# Altium integrated library FPGA Generic.IntLib: 1651 symbols (part 15 of 20)
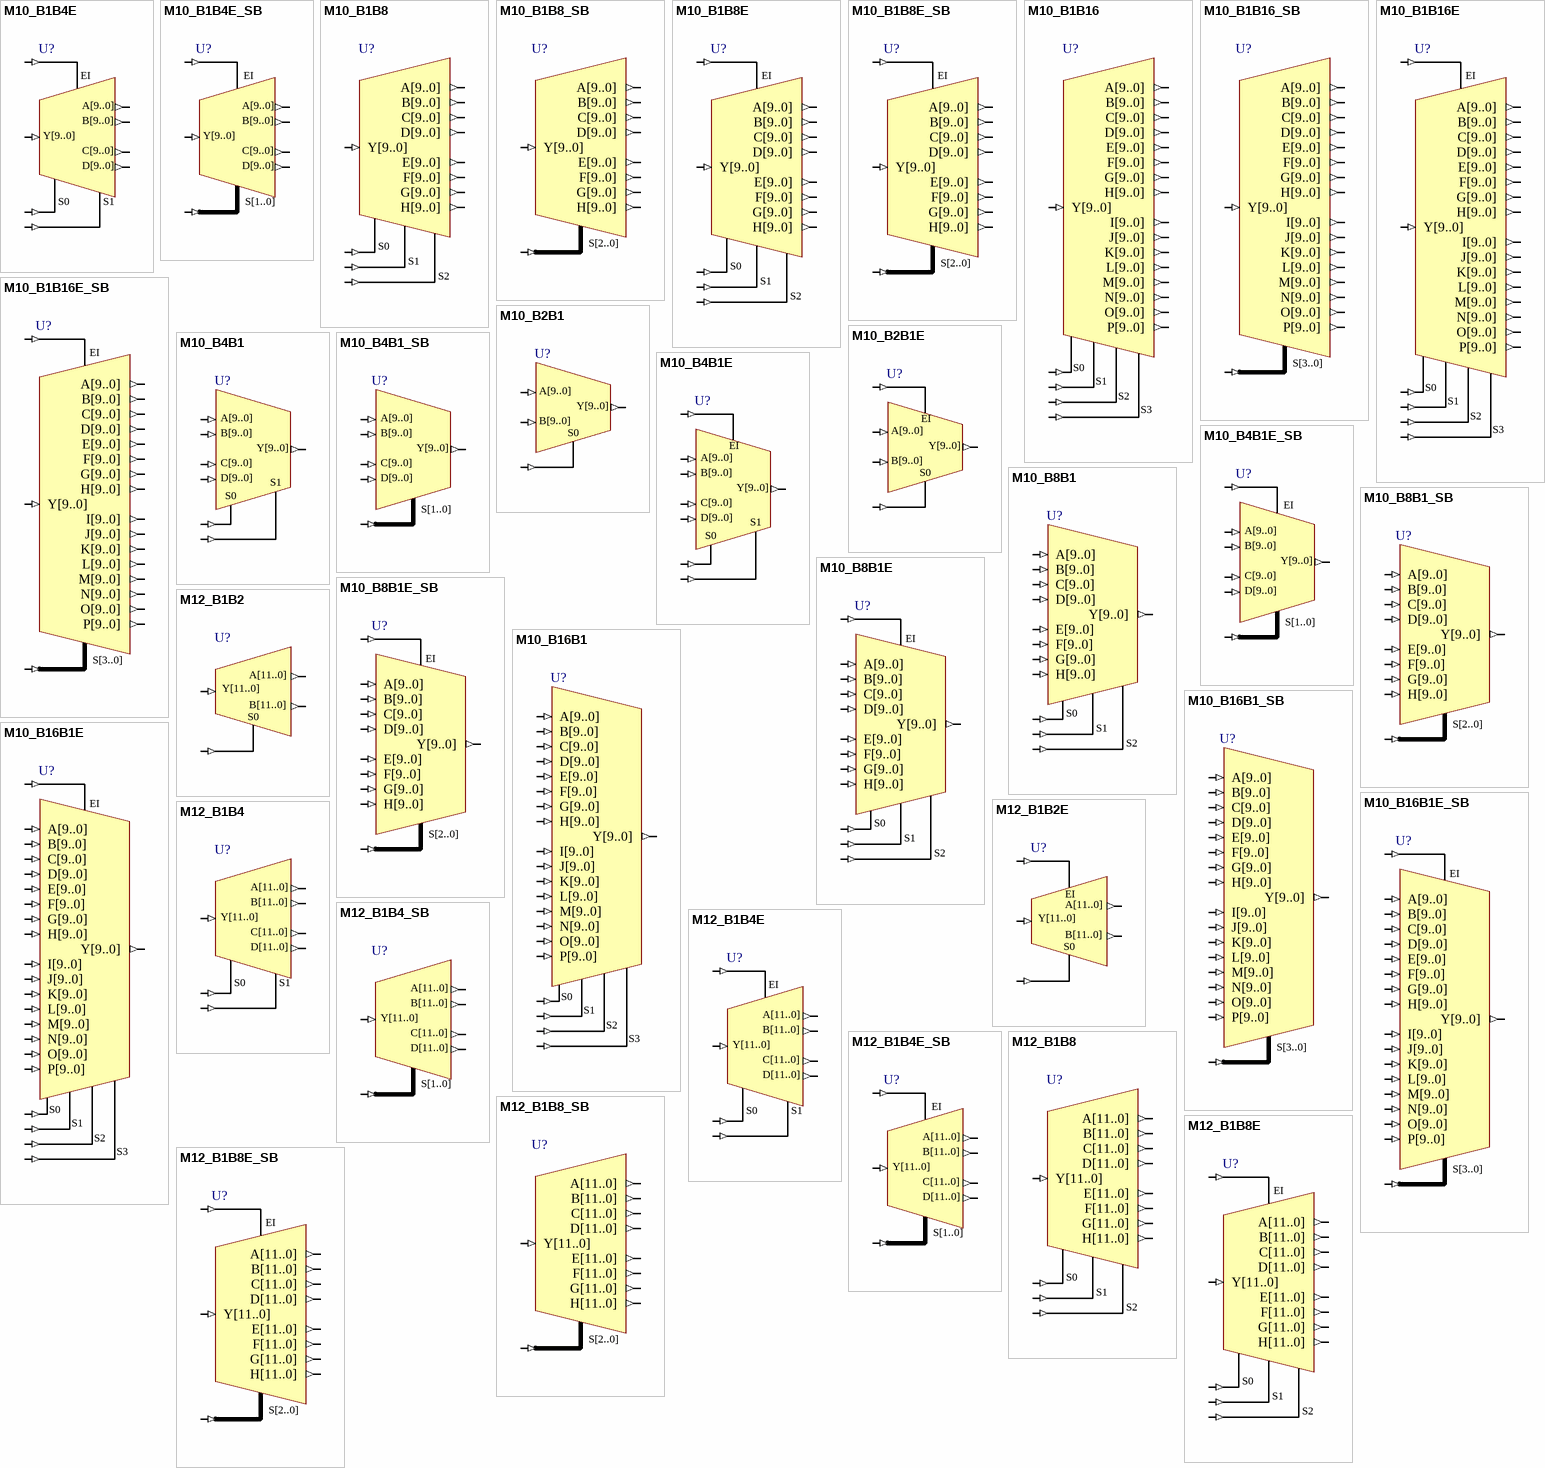
[diagram p57: symbols M10_B1B4E to M12_B1B8E_SB]

## M10_B4B1_SB
designator U?
4x10-Bit Bus to 1x10-Bit Bus Multiplexer With Bus Version Select; SubClass: BnB1; BusBusSelect: True; PortSize: 10; ArchiveName: GENERIC; VHDLIB_SIM: GENERIC_LIB; Published: 31-May-2004; Publisher: Altium Limited; LastRevisionNo: 1.00.00; HelpURL: CR0118 FPGA Generic Library Guide.pdf#page=370; ComponentLink1URL: CR0137 FPGA Multiplexer Resource Usage.pdf#page=365; ComponentLink1Description: Core &Resource Usage; FunctionalClass: Multiplexer
pins: A[9..0] (in), B[9..0] (in), C[9..0] (in), D[9..0] (in), S[1..0] (in), Y[9..0] (out)

## M10_B4B1E
designator U?
4x10-Bit Bus to 1x10-Bit Bus Multiplexer With Enable; SubClass: BnB1; Enable: High; PortSize: 10; ArchiveName: GENERIC; VHDLIB_SIM: GENERIC_LIB; Published: 29-Jan-2004; Publisher: Altium Limited; LastRevisionNo: 1.00.00; HelpURL: CR0118 FPGA Generic Library Guide.pdf#page=374; ComponentLink1URL: CR0137 FPGA Multiplexer Resource Usage.pdf#page=366; ComponentLink1Description: Core &Resource Usage; FunctionalClass: Multiplexer
pins: A[9..0] (in), B[9..0] (in), C[9..0] (in), D[9..0] (in), EI (in), S0 (in), S1 (in), Y[9..0] (out)

## M10_B4B1E_SB
designator U?
4x10-Bit Bus to 1x10-Bit Bus Multiplexer With Enable With Bus Version Select; SubClass: BnB1; Enable: High; BusBusSelect: True; PortSize: 10; ArchiveName: GENERIC; VHDLIB_SIM: GENERIC_LIB; Published: 31-May-2004; Publisher: Altium Limited; LastRevisionNo: 1.00.00; HelpURL: CR0118 FPGA Generic Library Guide.pdf#page=374; ComponentLink1URL: CR0137 FPGA Multiplexer Resource Usage.pdf#page=367; ComponentLink1Description: Core &Resource Usage; FunctionalClass: Multiplexer
pins: A[9..0] (in), B[9..0] (in), C[9..0] (in), D[9..0] (in), EI (in), S[1..0] (in), Y[9..0] (out)

## M10_B8B1
designator U?
8x10-Bit Bus to 1x10-Bit Bus Multiplexer; SubClass: BnB1; PortSize: 10; ArchiveName: GENERIC; VHDLIB_SIM: GENERIC_LIB; Published: 29-Jan-2004; Publisher: Altium Limited; LastRevisionNo: 1.00.00; HelpURL: CR0118 FPGA Generic Library Guide.pdf#page=383; ComponentLink1URL: CR0137 FPGA Multiplexer Resource Usage.pdf#page=368; ComponentLink1Description: Core &Resource Usage; FunctionalClass: Multiplexer
pins: A[9..0] (in), B[9..0] (in), C[9..0] (in), D[9..0] (in), E[9..0] (in), F[9..0] (in), G[9..0] (in), H[9..0] (in), S0 (in), S1 (in), S2 (in), Y[9..0] (out)

## M10_B8B1_SB
designator U?
8x10-Bit Bus to 1x10-Bit Bus Multiplexer With Bus Version Select; SubClass: BnB1; BusBusSelect: True; PortSize: 10; ArchiveName: GENERIC; VHDLIB_SIM: GENERIC_LIB; Published: 31-May-2004; Publisher: Altium Limited; LastRevisionNo: 1.00.00; HelpURL: CR0118 FPGA Generic Library Guide.pdf#page=379; ComponentLink1URL: CR0137 FPGA Multiplexer Resource Usage.pdf#page=369; ComponentLink1Description: Core &Resource Usage; FunctionalClass: Multiplexer
pins: A[9..0] (in), B[9..0] (in), C[9..0] (in), D[9..0] (in), E[9..0] (in), F[9..0] (in), G[9..0] (in), H[9..0] (in), S[2..0] (in), Y[9..0] (out)

## M10_B8B1E
designator U?
8x10-Bit Bus to 1x10-Bit Bus Multiplexer With Enable; SubClass: BnB1; Enable: High; PortSize: 10; ArchiveName: GENERIC; VHDLIB_SIM: GENERIC_LIB; Published: 29-Jan-2004; Publisher: Altium Limited; LastRevisionNo: 1.00.00; HelpURL: CR0118 FPGA Generic Library Guide.pdf#page=383; ComponentLink1URL: CR0137 FPGA Multiplexer Resource Usage.pdf#page=370; ComponentLink1Description: Core &Resource Usage; FunctionalClass: Multiplexer
pins: A[9..0] (in), B[9..0] (in), C[9..0] (in), D[9..0] (in), E[9..0] (in), EI (in), F[9..0] (in), G[9..0] (in), H[9..0] (in), S0 (in), S1 (in), S2 (in), Y[9..0] (out)

## M10_B8B1E_SB
designator U?
8x10-Bit Bus to 1x10-Bit Bus Multiplexer With Enable With Bus Version Select; SubClass: BnB1; Enable: High; BusBusSelect: True; PortSize: 10; ArchiveName: GENERIC; VHDLIB_SIM: GENERIC_LIB; Published: 31-May-2004; Publisher: Altium Limited; LastRevisionNo: 1.00.00; HelpURL: CR0118 FPGA Generic Library Guide.pdf#page=383; ComponentLink1URL: CR0137 FPGA Multiplexer Resource Usage.pdf#page=371; ComponentLink1Description: Core &Resource Usage; FunctionalClass: Multiplexer
pins: A[9..0] (in), B[9..0] (in), C[9..0] (in), D[9..0] (in), E[9..0] (in), EI (in), F[9..0] (in), G[9..0] (in), H[9..0] (in), S[2..0] (in), Y[9..0] (out)

## M10_B16B1
designator U?
16x10-Bit Bus to 1x10-Bit Bus Multiplexer; SubClass: BnB1; PortSize: 10; ArchiveName: GENERIC; VHDLIB_SIM: GENERIC_LIB; Published: 29-Jan-2004; Publisher: Altium Limited; LastRevisionNo: 1.00.00; HelpURL: CR0118 FPGA Generic Library Guide.pdf#page=388; ComponentLink1URL: CR0137 FPGA Multiplexer Resource Usage.pdf#page=372; ComponentLink1Description: Core &Resource Usage; FunctionalClass: Multiplexer
pins: A[9..0] (in), B[9..0] (in), C[9..0] (in), D[9..0] (in), E[9..0] (in), F[9..0] (in), G[9..0] (in), H[9..0] (in), I[9..0] (in), J[9..0] (in), K[9..0] (in), L[9..0] (in), M[9..0] (in), N[9..0] (in), O[9..0] (in), P[9..0] (in), S0 (in), S1 (in), S2 (in), S3 (in), Y[9..0] (out)

## M10_B16B1_SB
designator U?
16x10-Bit Bus to 1x10-Bit Bus Multiplexer With Bus Version Select; SubClass: BnB1; BusBusSelect: True; PortSize: 10; ArchiveName: GENERIC; VHDLIB_SIM: GENERIC_LIB; Published: 29-Jan-2004; Publisher: Altium Limited; LastRevisionNo: 1.00.00; HelpURL: CR0118 FPGA Generic Library Guide.pdf#page=388; ComponentLink1URL: CR0137 FPGA Multiplexer Resource Usage.pdf#page=373; ComponentLink1Description: Core &Resource Usage; FunctionalClass: Multiplexer
pins: A[9..0] (in), B[9..0] (in), C[9..0] (in), D[9..0] (in), E[9..0] (in), F[9..0] (in), G[9..0] (in), H[9..0] (in), I[9..0] (in), J[9..0] (in), K[9..0] (in), L[9..0] (in), M[9..0] (in), N[9..0] (in), O[9..0] (in), P[9..0] (in), S[3..0] (in), Y[9..0] (out)

## M10_B16B1E
designator U?
16x10-Bit Bus to 1x10-Bit Bus Multiplexer With Enable; SubClass: BnB1; Enable: High; PortSize: 10; ArchiveName: GENERIC; VHDLIB_SIM: GENERIC_LIB; Published: 29-Jan-2004; Publisher: Altium Limited; LastRevisionNo: 1.00.00; HelpURL: CR0118 FPGA Generic Library Guide.pdf#page=393; ComponentLink1URL: CR0137 FPGA Multiplexer Resource Usage.pdf#page=374; ComponentLink1Description: Core &Resource Usage; FunctionalClass: Multiplexer
pins: A[9..0] (in), B[9..0] (in), C[9..0] (in), D[9..0] (in), E[9..0] (in), EI (in), F[9..0] (in), G[9..0] (in), H[9..0] (in), I[9..0] (in), J[9..0] (in), K[9..0] (in), L[9..0] (in), M[9..0] (in), N[9..0] (in), O[9..0] (in), P[9..0] (in), S0 (in), S1 (in), S2 (in), S3 (in), Y[9..0] (out)

## M10_B16B1E_SB
designator U?
16x10-Bit Bus to 1x10-Bit Bus Multiplexer With Enable and Bus Version Select; SubClass: BnB1; Enable: High; BusBusSelect: True; PortSize: 10; ArchiveName: GENERIC; VHDLIB_SIM: GENERIC_LIB; Published: 29-Jan-2004; Publisher: Altium Limited; LastRevisionNo: 1.00.00; HelpURL: CR0118 FPGA Generic Library Guide.pdf#page=393; ComponentLink1URL: CR0137 FPGA Multiplexer Resource Usage.pdf#page=375; ComponentLink1Description: Core &Resource Usage; FunctionalClass: Multiplexer
pins: A[9..0] (in), B[9..0] (in), C[9..0] (in), D[9..0] (in), E[9..0] (in), EI (in), F[9..0] (in), G[9..0] (in), H[9..0] (in), I[9..0] (in), J[9..0] (in), K[9..0] (in), L[9..0] (in), M[9..0] (in), N[9..0] (in), O[9..0] (in), P[9..0] (in), S[3..0] (in), Y[9..0] (out)

## M12_B1B2
designator U?
1x12-Bit Bus to 2x12-Bit Bus Multiplexer (Demultiplex); SubClass: B1Bn; PortSize: 12; PortStyle: Bus Version; ArchiveName: GENERIC; VHDLIB_SIM: GENERIC_LIB; Published: 29-Jan-2004; Publisher: Altium Limited; LastRevisionNo: 1.00.00; HelpURL: CR0118 FPGA Generic Library Guide.pdf#page=328; ComponentLink1URL: CR0137 FPGA Multiplexer Resource Usage.pdf#page=376; ComponentLink1Description: Core &Resource Usage; FunctionalClass: Multiplexer
pins: A[11..0] (out), B[11..0] (out), S0 (in), Y[11..0] (in)

## M12_B1B2E
designator U?
1x12-Bit Bus to 2x12-Bit Bus Multiplexer (Demultiplex) With Enable; SubClass: B1Bn; Enable: High; PortSize: 12; PortStyle: Bus Version; ArchiveName: GENERIC; VHDLIB_SIM: GENERIC_LIB; Published: 29-Jan-2004; Publisher: Altium Limited; LastRevisionNo: 1.00.00; HelpURL: CR0118 FPGA Generic Library Guide.pdf#page=331; ComponentLink1URL: CR0137 FPGA Multiplexer Resource Usage.pdf#page=377; ComponentLink1Description: Core &Resource Usage; FunctionalClass: Multiplexer
pins: A[11..0] (out), B[11..0] (out), EI (in), S0 (in), Y[11..0] (in)

## M12_B1B4
designator U?
1x12-Bit Bus to 4x12-Bit Bus Multiplexer (Demultiplex); SubClass: B1Bn; PortSize: 12; PortStyle: Bus Version; ArchiveName: GENERIC; VHDLIB_SIM: GENERIC_LIB; Published: 29-Jan-2004; Publisher: Altium Limited; LastRevisionNo: 1.00.00; HelpURL: CR0118 FPGA Generic Library Guide.pdf#page=335; ComponentLink1URL: CR0137 FPGA Multiplexer Resource Usage.pdf#page=378; ComponentLink1Description: Core &Resource Usage; FunctionalClass: Multiplexer
pins: A[11..0] (out), B[11..0] (out), C[11..0] (out), D[11..0] (out), S0 (in), S1 (in), Y[11..0] (in)

## M12_B1B4_SB
designator U?
1x12-Bit Bus to 4x12-Bit Bus Multiplexer (Demultiplex) With Bus Version Select; SubClass: B1Bn; BusBusSelect: True; PortSize: 12; ArchiveName: GENERIC; VHDLIB_SIM: GENERIC_LIB; Published: 31-May-2004; Publisher: Altium Limited; LastRevisionNo: 1.00.00; HelpURL: CR0118 FPGA Generic Library Guide.pdf#page=335; ComponentLink1URL: CR0137 FPGA Multiplexer Resource Usage.pdf#page=379; ComponentLink1Description: Core &Resource Usage; FunctionalClass: Multiplexer; PortStyle: Bus Version
pins: A[11..0] (out), B[11..0] (out), C[11..0] (out), D[11..0] (out), S[1..0] (in), Y[11..0] (in)

## M12_B1B4E
designator U?
1x12-Bit Bus to 4x12-Bit Bus Multiplexer (Demultiplex) With Enable; SubClass: B1Bn; Enable: High; PortSize: 12; PortStyle: Bus Version; ArchiveName: GENERIC; VHDLIB_SIM: GENERIC_LIB; Published: 29-Jan-2004; Publisher: Altium Limited; LastRevisionNo: 1.00.00; HelpURL: CR0118 FPGA Generic Library Guide.pdf#page=339; ComponentLink1URL: CR0137 FPGA Multiplexer Resource Usage.pdf#page=380; ComponentLink1Description: Core &Resource Usage; FunctionalClass: Multiplexer
pins: A[11..0] (out), B[11..0] (out), C[11..0] (out), D[11..0] (out), EI (in), S0 (in), S1 (in), Y[11..0] (in)

## M12_B1B4E_SB
designator U?
1x12-Bit Bus to 4x12-Bit Bus Multiplexer (Demultiplex) With Enable With Bus Version Select; SubClass: B1Bn; Enable: High; BusBusSelect: True; PortSize: 12; ArchiveName: GENERIC; VHDLIB_SIM: GENERIC_LIB; Published: 31-May-2004; Publisher: Altium Limited; LastRevisionNo: 1.00.00; HelpURL: CR0118 FPGA Generic Library Guide.pdf#page=339; ComponentLink1URL: CR0137 FPGA Multiplexer Resource Usage.pdf#page=381; ComponentLink1Description: Core &Resource Usage; FunctionalClass: Multiplexer; PortStyle: Bus Version
pins: A[11..0] (out), B[11..0] (out), C[11..0] (out), D[11..0] (out), EI (in), S[1..0] (in), Y[11..0] (in)

## M12_B1B8
designator U?
1x12-Bit Bus to 8x12-Bit Bus Multiplexer (Demultiplex); SubClass: B1Bn; PortSize: 12; PortStyle: Bus Version; ArchiveName: GENERIC; VHDLIB_SIM: GENERIC_LIB; Published: 29-Jan-2004; Publisher: Altium Limited; LastRevisionNo: 1.00.00; HelpURL: CR0118 FPGA Generic Library Guide.pdf#page=345; ComponentLink1URL: CR0137 FPGA Multiplexer Resource Usage.pdf#page=382; ComponentLink1Description: Core &Resource Usage; FunctionalClass: Multiplexer
pins: A[11..0] (out), B[11..0] (out), C[11..0] (out), D[11..0] (out), E[11..0] (out), F[11..0] (out), G[11..0] (out), H[11..0] (out), S0 (in), S1 (in), S2 (in), Y[11..0] (in)

## M12_B1B8_SB
designator U?
1x12-Bit Bus to 8x12-Bit Bus Multiplexer (Demultiplex) With Bus Version Select; SubClass: B1Bn; BusBusSelect: True; PortSize: 12; ArchiveName: GENERIC; VHDLIB_SIM: GENERIC_LIB; Published: 31-May-2004; Publisher: Altium Limited; LastRevisionNo: 1.00.00; HelpURL: CR0118 FPGA Generic Library Guide.pdf#page=345; ComponentLink1URL: CR0137 FPGA Multiplexer Resource Usage.pdf#page=383; ComponentLink1Description: Core &Resource Usage; FunctionalClass: Multiplexer; PortStyle: Bus Version
pins: A[11..0] (out), B[11..0] (out), C[11..0] (out), D[11..0] (out), E[11..0] (out), F[11..0] (out), G[11..0] (out), H[11..0] (out), S[2..0] (in), Y[11..0] (in)

## M12_B1B8E
designator U?
1x12-Bit Bus to 8x12-Bit Bus Multiplexer (Demultiplex) With Enable; SubClass: B1Bn; Enable: High; PortSize: 12; PortStyle: Bus Version; ArchiveName: GENERIC; VHDLIB_SIM: GENERIC_LIB; Published: 29-Jan-2004; Publisher: Altium Limited; LastRevisionNo: 1.00.00; HelpURL: CR0118 FPGA Generic Library Guide.pdf#page=350; ComponentLink1URL: CR0137 FPGA Multiplexer Resource Usage.pdf#page=384; ComponentLink1Description: Core &Resource Usage; FunctionalClass: Multiplexer
pins: A[11..0] (out), B[11..0] (out), C[11..0] (out), D[11..0] (out), E[11..0] (out), EI (in), F[11..0] (out), G[11..0] (out), H[11..0] (out), S0 (in), S1 (in), S2 (in), Y[11..0] (in)

## M12_B1B8E_SB
designator U?
1x12-Bit Bus to 8x12-Bit Bus Multiplexer (Demultiplex) With Enable With Bus Version Select; SubClass: B1Bn; Enable: High; BusBusSelect: True; PortSize: 12; ArchiveName: GENERIC; VHDLIB_SIM: GENERIC_LIB; Published: 31-May-2004; Publisher: Altium Limited; LastRevisionNo: 1.00.00; HelpURL: CR0118 FPGA Generic Library Guide.pdf#page=350; ComponentLink1URL: CR0137 FPGA Multiplexer Resource Usage.pdf#page=385; ComponentLink1Description: Core &Resource Usage; FunctionalClass: Multiplexer; PortStyle: Bus Version
pins: A[11..0] (out), B[11..0] (out), C[11..0] (out), D[11..0] (out), E[11..0] (out), EI (in), F[11..0] (out), G[11..0] (out), H[11..0] (out), S[2..0] (in), Y[11..0] (in)

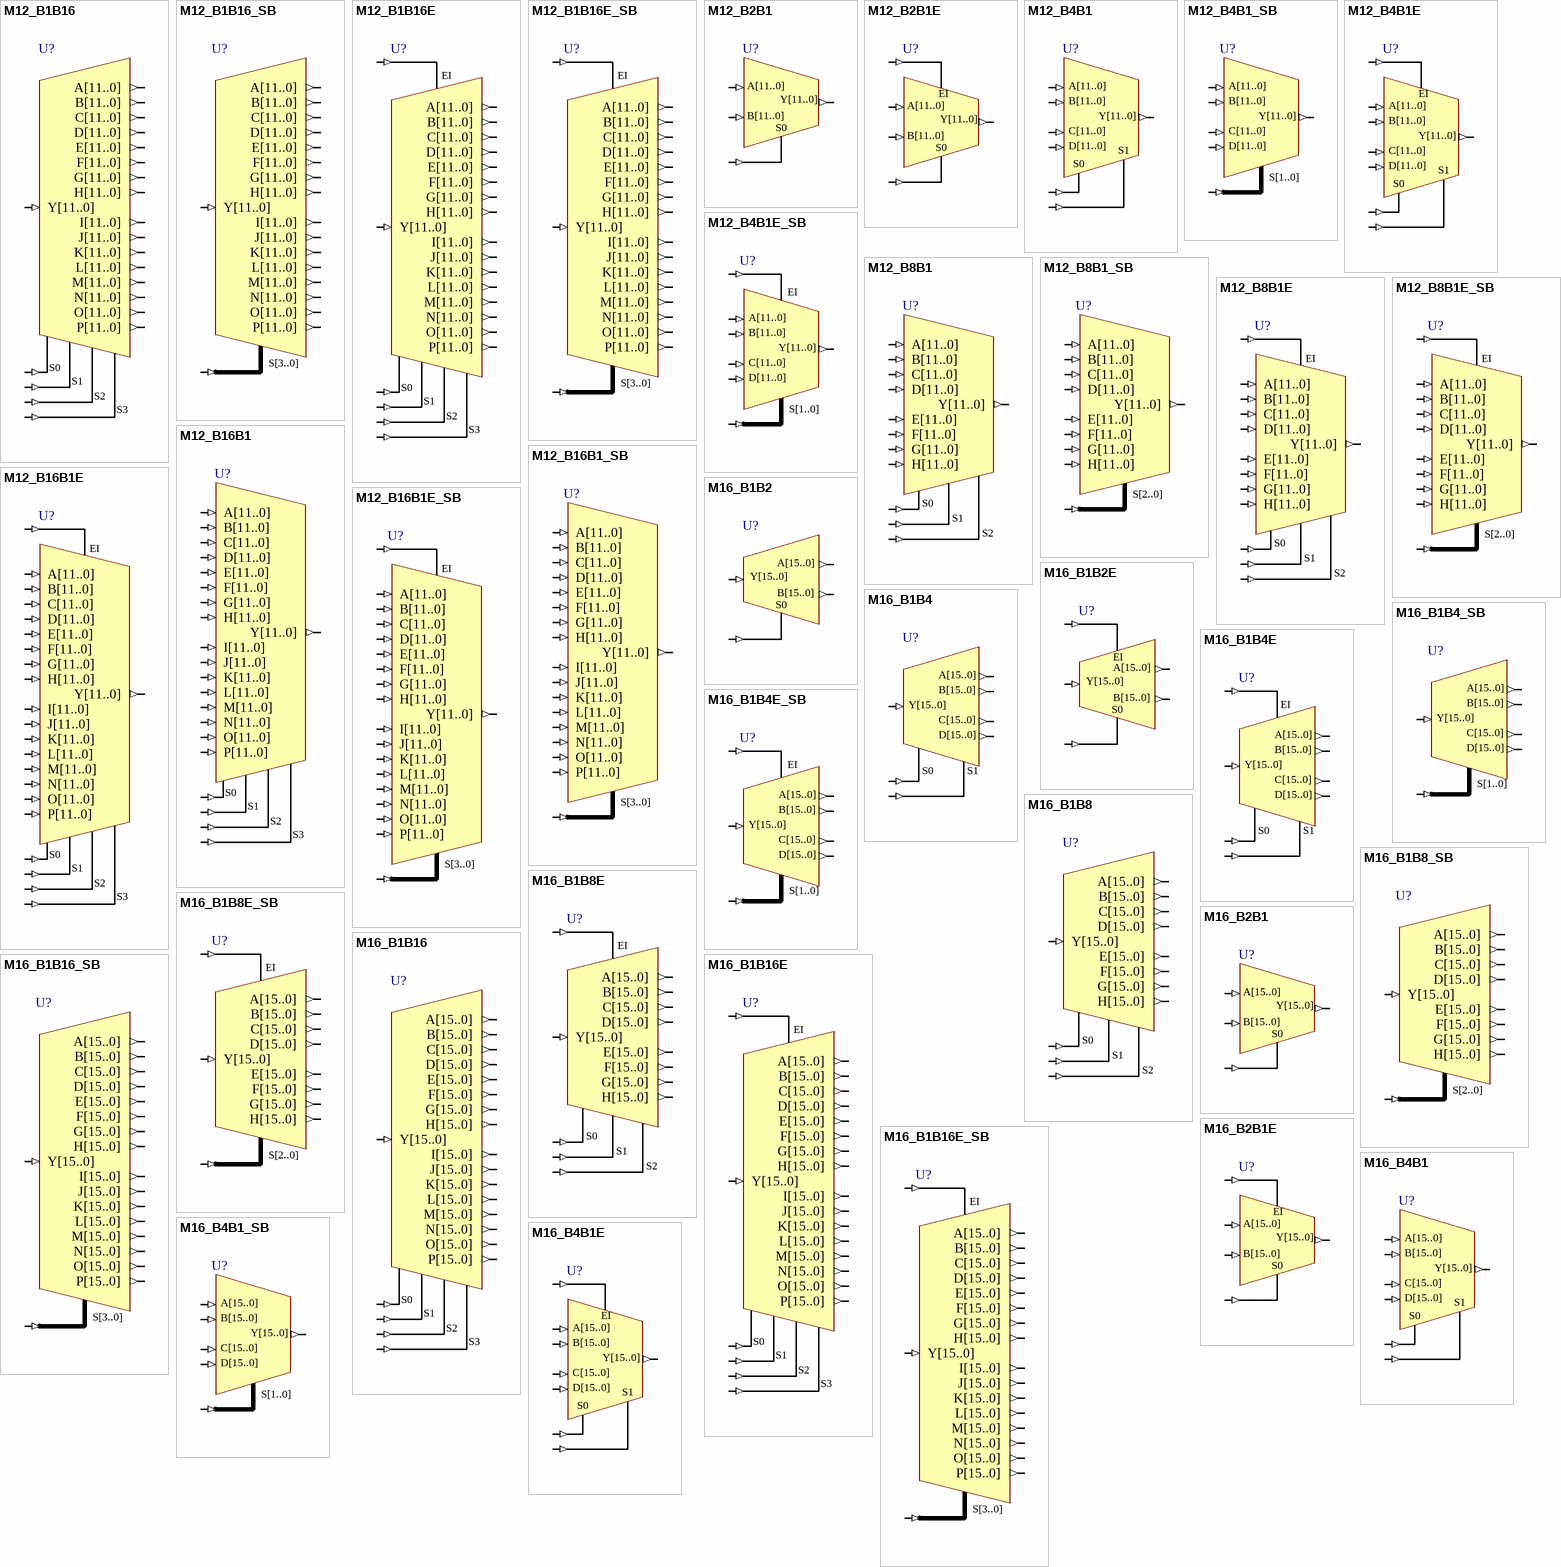
[diagram p31: symbols M12_B1B16 to M16_B4B1E]

## M12_B1B16
designator U?
1x12-Bit Bus to 16x12-Bit Bus Multiplexer (Demultiplex); SubClass: B1Bn; PortSize: 12; PortStyle: Bus Version; ArchiveName: GENERIC; VHDLIB_SIM: GENERIC_LIB; Published: 29-Jan-2004; Publisher: Altium Limited; LastRevisionNo: 1.00.00; HelpURL: CR0118 FPGA Generic Library Guide.pdf#page=355; ComponentLink1URL: CR0137 FPGA Multiplexer Resource Usage.pdf#page=386; ComponentLink1Description: Core &Resource Usage; FunctionalClass: Multiplexer
pins: A[11..0] (out), B[11..0] (out), C[11..0] (out), D[11..0] (out), E[11..0] (out), F[11..0] (out), G[11..0] (out), H[11..0] (out), I[11..0] (out), J[11..0] (out), K[11..0] (out), L[11..0] (out), M[11..0] (out), N[11..0] (out), O[11..0] (out), P[11..0] (out), S0 (in), S1 (in), S2 (in), S3 (in), Y[11..0] (in)

## M12_B1B16_SB
designator U?
1x12-Bit Bus to 16x12-Bit Bus Multiplexer (Demultiplex) With Bus Version Select; SubClass: B1Bn; BusBusSelect: True; PortSize: 12; ArchiveName: GENERIC; VHDLIB_SIM: GENERIC_LIB; Published: 29-Jan-2004; Publisher: Altium Limited; LastRevisionNo: 1.00.00; HelpURL: CR0118 FPGA Generic Library Guide.pdf#page=355; ComponentLink1URL: CR0137 FPGA Multiplexer Resource Usage.pdf#page=387; ComponentLink1Description: Core &Resource Usage; FunctionalClass: Multiplexer; PortStyle: Bus Version
pins: A[11..0] (out), B[11..0] (out), C[11..0] (out), D[11..0] (out), E[11..0] (out), F[11..0] (out), G[11..0] (out), H[11..0] (out), I[11..0] (out), J[11..0] (out), K[11..0] (out), L[11..0] (out), M[11..0] (out), N[11..0] (out), O[11..0] (out), P[11..0] (out), S[3..0] (in), Y[11..0] (in)

## M12_B1B16E
designator U?
1x12-Bit Bus to 16x12-Bit Bus Multiplexer (Demultiplex) With Enable; SubClass: B1Bn; Enable: High; PortSize: 12; PortStyle: Bus Version; ArchiveName: GENERIC; VHDLIB_SIM: GENERIC_LIB; Published: 29-Jan-2004; Publisher: Altium Limited; LastRevisionNo: 1.00.00; HelpURL: CR0118 FPGA Generic Library Guide.pdf#page=360; ComponentLink1URL: CR0137 FPGA Multiplexer Resource Usage.pdf#page=388; ComponentLink1Description: Core &Resource Usage; FunctionalClass: Multiplexer
pins: A[11..0] (out), B[11..0] (out), C[11..0] (out), D[11..0] (out), E[11..0] (out), EI (in), F[11..0] (out), G[11..0] (out), H[11..0] (out), I[11..0] (out), J[11..0] (out), K[11..0] (out), L[11..0] (out), M[11..0] (out), N[11..0] (out), O[11..0] (out), P[11..0] (out), S0 (in), S1 (in), S2 (in), S3 (in), Y[11..0] (in)

## M12_B1B16E_SB
designator U?
1x12-Bit Bus to 16x12-Bit Bus Multiplexer (Demultiplex) With Enable and Bus Version Select; SubClass: B1Bn; Enable: High; BusBusSelect: True; PortSize: 12; ArchiveName: GENERIC; VHDLIB_SIM: GENERIC_LIB; Published: 29-Jan-2004; Publisher: Altium Limited; LastRevisionNo: 1.00.00; HelpURL: CR0118 FPGA Generic Library Guide.pdf#page=360; ComponentLink1URL: CR0137 FPGA Multiplexer Resource Usage.pdf#page=389; ComponentLink1Description: Core &Resource Usage; FunctionalClass: Multiplexer; PortStyle: Bus Version
pins: A[11..0] (out), B[11..0] (out), C[11..0] (out), D[11..0] (out), E[11..0] (out), EI (in), F[11..0] (out), G[11..0] (out), H[11..0] (out), I[11..0] (out), J[11..0] (out), K[11..0] (out), L[11..0] (out), M[11..0] (out), N[11..0] (out), O[11..0] (out), P[11..0] (out), S[3..0] (in), Y[11..0] (in)

## M12_B2B1
designator U?
2x12-Bit Bus to 1x12-Bit Bus Multiplexer; SubClass: BnB1; PortSize: 12; ArchiveName: GENERIC; VHDLIB_SIM: GENERIC_LIB; Published: 29-Jan-2004; Publisher: Altium Limited; LastRevisionNo: 1.00.00; HelpURL: CR0118 FPGA Generic Library Guide.pdf#page=364; ComponentLink1URL: CR0137 FPGA Multiplexer Resource Usage.pdf#page=390; ComponentLink1Description: Core &Resource Usage; FunctionalClass: Multiplexer
pins: A[11..0] (in), B[11..0] (in), S0 (in), Y[11..0] (out)

## M12_B2B1E
designator U?
2x12-Bit Bus to 1x12-Bit Bus Multiplexer With Enable; SubClass: BnB1; Enable: High; PortSize: 12; ArchiveName: GENERIC; VHDLIB_SIM: GENERIC_LIB; Published: 29-Jan-2004; Publisher: Altium Limited; LastRevisionNo: 1.00.00; HelpURL: CR0118 FPGA Generic Library Guide.pdf#page=366; ComponentLink1URL: CR0137 FPGA Multiplexer Resource Usage.pdf#page=391; ComponentLink1Description: Core &Resource Usage; FunctionalClass: Multiplexer
pins: A[11..0] (in), B[11..0] (in), EI (in), S0 (in), Y[11..0] (out)

## M12_B4B1
designator U?
4x12-Bit Bus to 1x12-Bit Bus Multiplexer; SubClass: BnB1; PortSize: 12; ArchiveName: GENERIC; VHDLIB_SIM: GENERIC_LIB; Published: 29-Jan-2004; Publisher: Altium Limited; LastRevisionNo: 1.00.00; HelpURL: CR0118 FPGA Generic Library Guide.pdf#page=370; ComponentLink1URL: CR0137 FPGA Multiplexer Resource Usage.pdf#page=392; ComponentLink1Description: Core &Resource Usage; FunctionalClass: Multiplexer
pins: A[11..0] (in), B[11..0] (in), C[11..0] (in), D[11..0] (in), S0 (in), S1 (in), Y[11..0] (out)

## M12_B4B1_SB
designator U?
4x12-Bit Bus to 1x12-Bit Bus Multiplexer With Bus Version Select; SubClass: BnB1; BusBusSelect: True; PortSize: 12; ArchiveName: GENERIC; VHDLIB_SIM: GENERIC_LIB; Published: 31-May-2004; Publisher: Altium Limited; LastRevisionNo: 1.00.00; HelpURL: CR0118 FPGA Generic Library Guide.pdf#page=370; ComponentLink1URL: CR0137 FPGA Multiplexer Resource Usage.pdf#page=393; ComponentLink1Description: Core &Resource Usage; FunctionalClass: Multiplexer
pins: A[11..0] (in), B[11..0] (in), C[11..0] (in), D[11..0] (in), S[1..0] (in), Y[11..0] (out)

## M12_B4B1E
designator U?
4x12-Bit Bus to 1x12-Bit Bus Multiplexer With Enable; SubClass: BnB1; Enable: High; PortSize: 12; ArchiveName: GENERIC; VHDLIB_SIM: GENERIC_LIB; Published: 29-Jan-2004; Publisher: Altium Limited; LastRevisionNo: 1.00.00; HelpURL: CR0118 FPGA Generic Library Guide.pdf#page=374; ComponentLink1URL: CR0137 FPGA Multiplexer Resource Usage.pdf#page=394; ComponentLink1Description: Core &Resource Usage; FunctionalClass: Multiplexer
pins: A[11..0] (in), B[11..0] (in), C[11..0] (in), D[11..0] (in), EI (in), S0 (in), S1 (in), Y[11..0] (out)

## M12_B4B1E_SB
designator U?
4x12-Bit Bus to 1x12-Bit Bus Multiplexer With Enable With Bus Version Select; SubClass: BnB1; Enable: High; BusBusSelect: True; PortSize: 12; ArchiveName: GENERIC; VHDLIB_SIM: GENERIC_LIB; Published: 31-May-2004; Publisher: Altium Limited; LastRevisionNo: 1.00.00; HelpURL: CR0118 FPGA Generic Library Guide.pdf#page=374; ComponentLink1URL: CR0137 FPGA Multiplexer Resource Usage.pdf#page=395; ComponentLink1Description: Core &Resource Usage; FunctionalClass: Multiplexer
pins: A[11..0] (in), B[11..0] (in), C[11..0] (in), D[11..0] (in), EI (in), S[1..0] (in), Y[11..0] (out)

## M12_B8B1
designator U?
8x12-Bit Bus to 1x12-Bit Bus Multiplexer; SubClass: BnB1; PortSize: 12; ArchiveName: GENERIC; VHDLIB_SIM: GENERIC_LIB; Published: 29-Jan-2004; Publisher: Altium Limited; LastRevisionNo: 1.00.00; HelpURL: CR0118 FPGA Generic Library Guide.pdf#page=379; ComponentLink1URL: CR0137 FPGA Multiplexer Resource Usage.pdf#page=396; ComponentLink1Description: Core &Resource Usage; FunctionalClass: Multiplexer
pins: A[11..0] (in), B[11..0] (in), C[11..0] (in), D[11..0] (in), E[11..0] (in), F[11..0] (in), G[11..0] (in), H[11..0] (in), S0 (in), S1 (in), S2 (in), Y[11..0] (out)

## M12_B8B1_SB
designator U?
8x12-Bit Bus to 1x12-Bit Bus Multiplexer With Bus Version Select; SubClass: BnB1; BusBusSelect: True; PortSize: 12; ArchiveName: GENERIC; VHDLIB_SIM: GENERIC_LIB; Published: 31-May-2004; Publisher: Altium Limited; LastRevisionNo: 1.00.00; HelpURL: CR0118 FPGA Generic Library Guide.pdf#page=379; ComponentLink1URL: CR0137 FPGA Multiplexer Resource Usage.pdf#page=397; ComponentLink1Description: Core &Resource Usage; FunctionalClass: Multiplexer
pins: A[11..0] (in), B[11..0] (in), C[11..0] (in), D[11..0] (in), E[11..0] (in), F[11..0] (in), G[11..0] (in), H[11..0] (in), S[2..0] (in), Y[11..0] (out)

## M12_B8B1E
designator U?
8x12-Bit Bus to 1x12-Bit Bus Multiplexer With Enable; SubClass: BnB1; Enable: High; PortSize: 12; ArchiveName: GENERIC; VHDLIB_SIM: GENERIC_LIB; Published: 29-Jan-2004; Publisher: Altium Limited; LastRevisionNo: 1.00.00; HelpURL: CR0118 FPGA Generic Library Guide.pdf#page=383; ComponentLink1URL: CR0137 FPGA Multiplexer Resource Usage.pdf#page=398; ComponentLink1Description: Core &Resource Usage; FunctionalClass: Multiplexer
pins: A[11..0] (in), B[11..0] (in), C[11..0] (in), D[11..0] (in), E[11..0] (in), EI (in), F[11..0] (in), G[11..0] (in), H[11..0] (in), S0 (in), S1 (in), S2 (in), Y[11..0] (out)

## M12_B8B1E_SB
designator U?
8x12-Bit Bus to 1x12-Bit Bus Multiplexer With Enable With Bus Version Select; SubClass: BnB1; Enable: High; BusBusSelect: True; PortSize: 12; ArchiveName: GENERIC; VHDLIB_SIM: GENERIC_LIB; Published: 31-May-2004; Publisher: Altium Limited; LastRevisionNo: 1.00.00; HelpURL: CR0118 FPGA Generic Library Guide.pdf#page=383; ComponentLink1URL: CR0137 FPGA Multiplexer Resource Usage.pdf#page=399; ComponentLink1Description: Core &Resource Usage; FunctionalClass: Multiplexer
pins: A[11..0] (in), B[11..0] (in), C[11..0] (in), D[11..0] (in), E[11..0] (in), EI (in), F[11..0] (in), G[11..0] (in), H[11..0] (in), S[2..0] (in), Y[11..0] (out)

## M12_B16B1
designator U?
16x12-Bit Bus to 1x12-Bit Bus Multiplexer; SubClass: BnB1; PortSize: 12; ArchiveName: GENERIC; VHDLIB_SIM: GENERIC_LIB; Published: 29-Jan-2004; Publisher: Altium Limited; LastRevisionNo: 1.00.00; HelpURL: CR0118 FPGA Generic Library Guide.pdf#page=388; ComponentLink1URL: CR0137 FPGA Multiplexer Resource Usage.pdf#page=400; ComponentLink1Description: Core &Resource Usage; FunctionalClass: Multiplexer
pins: A[11..0] (in), B[11..0] (in), C[11..0] (in), D[11..0] (in), E[11..0] (in), F[11..0] (in), G[11..0] (in), H[11..0] (in), I[11..0] (in), J[11..0] (in), K[11..0] (in), L[11..0] (in), M[11..0] (in), N[11..0] (in), O[11..0] (in), P[11..0] (in), S0 (in), S1 (in), S2 (in), S3 (in), Y[11..0] (out)

## M12_B16B1_SB
designator U?
16x12-Bit Bus to 1x12-Bit Bus Multiplexer With Bus Version Enable; SubClass: BnB1; BusBusSelect: True; PortSize: 12; ArchiveName: GENERIC; VHDLIB_SIM: GENERIC_LIB; Published: 29-Jan-2004; Publisher: Altium Limited; LastRevisionNo: 1.00.00; HelpURL: CR0118 FPGA Generic Library Guide.pdf#page=388; ComponentLink1URL: CR0137 FPGA Multiplexer Resource Usage.pdf#page=401; ComponentLink1Description: Core &Resource Usage; FunctionalClass: Multiplexer
pins: A[11..0] (in), B[11..0] (in), C[11..0] (in), D[11..0] (in), E[11..0] (in), F[11..0] (in), G[11..0] (in), H[11..0] (in), I[11..0] (in), J[11..0] (in), K[11..0] (in), L[11..0] (in), M[11..0] (in), N[11..0] (in), O[11..0] (in), P[11..0] (in), S[3..0] (in), Y[11..0] (out)

## M12_B16B1E
designator U?
16x12-Bit Bus to 1x12-Bit Bus Multiplexer With Enable; SubClass: BnB1; Enable: High; PortSize: 12; ArchiveName: GENERIC; VHDLIB_SIM: GENERIC_LIB; Published: 29-Jan-2004; Publisher: Altium Limited; LastRevisionNo: 1.00.00; HelpURL: CR0118 FPGA Generic Library Guide.pdf#page=393; ComponentLink1URL: CR0137 FPGA Multiplexer Resource Usage.pdf#page=402; ComponentLink1Description: Core &Resource Usage; FunctionalClass: Multiplexer
pins: A[11..0] (in), B[11..0] (in), C[11..0] (in), D[11..0] (in), E[11..0] (in), EI (in), F[11..0] (in), G[11..0] (in), H[11..0] (in), I[11..0] (in), J[11..0] (in), K[11..0] (in), L[11..0] (in), M[11..0] (in), N[11..0] (in), O[11..0] (in), P[11..0] (in), S0 (in), S1 (in), S2 (in), S3 (in), Y[11..0] (out)

## M12_B16B1E_SB
designator U?
16x12-Bit Bus to 1x12-Bit Bus Multiplexer With Enable and Bus Version Select; SubClass: BnB1; Enable: High; BusBusSelect: True; PortSize: 12; ArchiveName: GENERIC; VHDLIB_SIM: GENERIC_LIB; Published: 29-Jan-2004; Publisher: Altium Limited; LastRevisionNo: 1.00.00; HelpURL: CR0118 FPGA Generic Library Guide.pdf#page=393; ComponentLink1URL: CR0137 FPGA Multiplexer Resource Usage.pdf#page=403; ComponentLink1Description: Core &Resource Usage; FunctionalClass: Multiplexer
pins: A[11..0] (in), B[11..0] (in), C[11..0] (in), D[11..0] (in), E[11..0] (in), EI (in), F[11..0] (in), G[11..0] (in), H[11..0] (in), I[11..0] (in), J[11..0] (in), K[11..0] (in), L[11..0] (in), M[11..0] (in), N[11..0] (in), O[11..0] (in), P[11..0] (in), S[3..0] (in), Y[11..0] (out)

## M16_B1B2
designator U?
1x16-Bit Bus to 2x16-Bit Bus Multiplexer (Demultiplex); SubClass: B1Bn; PortSize: 16; PortStyle: Bus Version; ArchiveName: GENERIC; VHDLIB_SIM: GENERIC_LIB; Published: 29-Jan-2004; Publisher: Altium Limited; LastRevisionNo: 1.00.00; HelpURL: CR0118 FPGA Generic Library Guide.pdf#page=328; ComponentLink1URL: CR0137 FPGA Multiplexer Resource Usage.pdf#page=404; ComponentLink1Description: Core &Resource Usage; FunctionalClass: Multiplexer
pins: A[15..0] (out), B[15..0] (out), S0 (in), Y[15..0] (in)

## M16_B1B2E
designator U?
1x16-Bit Bus to 2x16-Bit Bus Multiplexer (Demultiplex) With Enable; SubClass: B1Bn; Enable: High; PortSize: 16; PortStyle: Bus Version; ArchiveName: GENERIC; VHDLIB_SIM: GENERIC_LIB; Published: 29-Jan-2004; Publisher: Altium Limited; LastRevisionNo: 1.00.00; HelpURL: CR0118 FPGA Generic Library Guide.pdf#page=331; ComponentLink1URL: CR0137 FPGA Multiplexer Resource Usage.pdf#page=405; ComponentLink1Description: Core &Resource Usage; FunctionalClass: Multiplexer
pins: A[15..0] (out), B[15..0] (out), EI (in), S0 (in), Y[15..0] (in)

## M16_B1B4
designator U?
1x16-Bit Bus to 4x16-Bit Bus Multiplexer (Demultiplex); SubClass: B1Bn; PortSize: 16; PortStyle: Bus Version; ArchiveName: GENERIC; VHDLIB_SIM: GENERIC_LIB; Published: 29-Jan-2004; Publisher: Altium Limited; LastRevisionNo: 1.00.00; HelpURL: CR0118 FPGA Generic Library Guide.pdf#page=335; ComponentLink1URL: CR0137 FPGA Multiplexer Resource Usage.pdf#page=406; ComponentLink1Description: Core &Resource Usage; FunctionalClass: Multiplexer
pins: A[15..0] (out), B[15..0] (out), C[15..0] (out), D[15..0] (out), S0 (in), S1 (in), Y[15..0] (in)

## M16_B1B4_SB
designator U?
1x16-Bit Bus to 4x16-Bit Bus Multiplexer (Demultiplex) With Bus Version Select; SubClass: B1Bn; BusBusSelect: True; PortSize: 16; ArchiveName: GENERIC; VHDLIB_SIM: GENERIC_LIB; Published: 31-May-2004; Publisher: Altium Limited; LastRevisionNo: 1.00.00; HelpURL: CR0118 FPGA Generic Library Guide.pdf#page=335; ComponentLink1URL: CR0137 FPGA Multiplexer Resource Usage.pdf#page=407; ComponentLink1Description: Core &Resource Usage; FunctionalClass: Multiplexer; PortStyle: Bus Version
pins: A[15..0] (out), B[15..0] (out), C[15..0] (out), D[15..0] (out), S[1..0] (in), Y[15..0] (in)

## M16_B1B4E
designator U?
1x16-Bit Bus to 4x16-Bit Bus Multiplexer (Demultiplex) With Enable; SubClass: B1Bn; Enable: High; PortSize: 16; PortStyle: Bus Version; ArchiveName: GENERIC; VHDLIB_SIM: GENERIC_LIB; Published: 29-Jan-2004; Publisher: Altium Limited; LastRevisionNo: 1.00.00; HelpURL: CR0118 FPGA Generic Library Guide.pdf#page=339; ComponentLink1URL: CR0137 FPGA Multiplexer Resource Usage.pdf#page=408; ComponentLink1Description: Core &Resource Usage; FunctionalClass: Multiplexer
pins: A[15..0] (out), B[15..0] (out), C[15..0] (out), D[15..0] (out), EI (in), S0 (in), S1 (in), Y[15..0] (in)

## M16_B1B4E_SB
designator U?
1x16-Bit Bus to 4x16-Bit Bus Multiplexer (Demultiplex) With Enable With Bus Version Select; SubClass: B1Bn; Enable: High; BusBusSelect: True; PortSize: 16; ArchiveName: GENERIC; VHDLIB_SIM: GENERIC_LIB; Published: 31-May-2004; Publisher: Altium Limited; LastRevisionNo: 1.00.00; HelpURL: CR0118 FPGA Generic Library Guide.pdf#page=339; ComponentLink1URL: CR0137 FPGA Multiplexer Resource Usage.pdf#page=409; ComponentLink1Description: Core &Resource Usage; FunctionalClass: Multiplexer; PortStyle: Bus Version
pins: A[15..0] (out), B[15..0] (out), C[15..0] (out), D[15..0] (out), EI (in), S[1..0] (in), Y[15..0] (in)

## M16_B1B8
designator U?
1x16-Bit Bus to 8x16-Bit Bus Multiplexer (Demultiplex); SubClass: B1Bn; PortSize: 16; PortStyle: Bus Version; ArchiveName: GENERIC; VHDLIB_SIM: GENERIC_LIB; Published: 29-Jan-2004; Publisher: Altium Limited; LastRevisionNo: 1.00.00; HelpURL: CR0118 FPGA Generic Library Guide.pdf#page=345; ComponentLink1URL: CR0137 FPGA Multiplexer Resource Usage.pdf#page=410; ComponentLink1Description: Core &Resource Usage; FunctionalClass: Multiplexer
pins: A[15..0] (out), B[15..0] (out), C[15..0] (out), D[15..0] (out), E[15..0] (out), F[15..0] (out), G[15..0] (out), H[15..0] (out), S0 (in), S1 (in), S2 (in), Y[15..0] (in)

## M16_B1B8_SB
designator U?
1x16-Bit Bus to 8x16-Bit Bus Multiplexer (Demultiplex) With Bus Version Select; SubClass: B1Bn; BusBusSelect: True; PortSize: 16; ArchiveName: GENERIC; VHDLIB_SIM: GENERIC_LIB; Published: 31-May-2004; Publisher: Altium Limited; LastRevisionNo: 1.00.00; HelpURL: CR0118 FPGA Generic Library Guide.pdf#page=345; ComponentLink1URL: CR0137 FPGA Multiplexer Resource Usage.pdf#page=411; ComponentLink1Description: Core &Resource Usage; FunctionalClass: Multiplexer; PortStyle: Bus Version
pins: A[15..0] (out), B[15..0] (out), C[15..0] (out), D[15..0] (out), E[15..0] (out), F[15..0] (out), G[15..0] (out), H[15..0] (out), S[2..0] (in), Y[15..0] (in)

## M16_B1B8E
designator U?
1x16-Bit Bus to 8x16-Bit Bus Multiplexer (Demultiplex) With Enable; SubClass: B1Bn; Enable: High; PortSize: 16; PortStyle: Bus Version; ArchiveName: GENERIC; VHDLIB_SIM: GENERIC_LIB; Published: 29-Jan-2004; Publisher: Altium Limited; LastRevisionNo: 1.00.00; HelpURL: CR0118 FPGA Generic Library Guide.pdf#page=350; ComponentLink1URL: CR0137 FPGA Multiplexer Resource Usage.pdf#page=412; ComponentLink1Description: Core &Resource Usage; FunctionalClass: Multiplexer
pins: A[15..0] (out), B[15..0] (out), C[15..0] (out), D[15..0] (out), E[15..0] (out), EI (in), F[15..0] (out), G[15..0] (out), H[15..0] (out), S0 (in), S1 (in), S2 (in), Y[15..0] (in)

## M16_B1B8E_SB
designator U?
1x16-Bit Bus to 8x16-Bit Bus Multiplexer (Demultiplex) With Enable With Bus Version Select; SubClass: B1Bn; Enable: High; BusBusSelect: True; PortSize: 16; ArchiveName: GENERIC; VHDLIB_SIM: GENERIC_LIB; Published: 31-May-2004; Publisher: Altium Limited; LastRevisionNo: 1.00.00; HelpURL: CR0118 FPGA Generic Library Guide.pdf#page=350; ComponentLink1URL: CR0137 FPGA Multiplexer Resource Usage.pdf#page=413; ComponentLink1Description: Core &Resource Usage; FunctionalClass: Multiplexer; PortStyle: Bus Version
pins: A[15..0] (out), B[15..0] (out), C[15..0] (out), D[15..0] (out), E[15..0] (out), EI (in), F[15..0] (out), G[15..0] (out), H[15..0] (out), S[2..0] (in), Y[15..0] (in)

## M16_B1B16
designator U?
1x16-Bit Bus to 16x16-Bit Bus Multiplexer (Demultiplex); SubClass: B1Bn; PortSize: 16; PortStyle: Bus Version; ArchiveName: GENERIC; VHDLIB_SIM: GENERIC_LIB; Published: 29-Jan-2004; Publisher: Altium Limited; LastRevisionNo: 1.00.00; HelpURL: CR0118 FPGA Generic Library Guide.pdf#page=355; ComponentLink1URL: CR0137 FPGA Multiplexer Resource Usage.pdf#page=414; ComponentLink1Description: Core &Resource Usage; FunctionalClass: Multiplexer
pins: A[15..0] (out), B[15..0] (out), C[15..0] (out), D[15..0] (out), E[15..0] (out), F[15..0] (out), G[15..0] (out), H[15..0] (out), I[15..0] (out), J[15..0] (out), K[15..0] (out), L[15..0] (out), M[15..0] (out), N[15..0] (out), O[15..0] (out), P[15..0] (out), S0 (in), S1 (in), S2 (in), S3 (in), Y[15..0] (in)

## M16_B1B16_SB
designator U?
1x16-Bit Bus to 16x16-Bit Bus Multiplexer (Demultiplex) With Bus Version Select; SubClass: B1Bn; BusBusSelect: True; PortSize: 16; ArchiveName: GENERIC; VHDLIB_SIM: GENERIC_LIB; Published: 29-Jan-2004; Publisher: Altium Limited; LastRevisionNo: 1.00.00; HelpURL: CR0118 FPGA Generic Library Guide.pdf#page=355; ComponentLink1URL: CR0137 FPGA Multiplexer Resource Usage.pdf#page=415; ComponentLink1Description: Core &Resource Usage; FunctionalClass: Multiplexer; PortStyle: Bus Version
pins: A[15..0] (out), B[15..0] (out), C[15..0] (out), D[15..0] (out), E[15..0] (out), F[15..0] (out), G[15..0] (out), H[15..0] (out), I[15..0] (out), J[15..0] (out), K[15..0] (out), L[15..0] (out), M[15..0] (out), N[15..0] (out), O[15..0] (out), P[15..0] (out), S[3..0] (in), Y[15..0] (in)

## M16_B1B16E
designator U?
1x16-Bit Bus to 16x16-Bit Bus Multiplexer (Demultiplex) With Enable; SubClass: B1Bn; Enable: High; PortSize: 16; PortStyle: Bus Version; ArchiveName: GENERIC; VHDLIB_SIM: GENERIC_LIB; Published: 29-Jan-2004; Publisher: Altium Limited; LastRevisionNo: 1.00.00; HelpURL: CR0118 FPGA Generic Library Guide.pdf#page=360; ComponentLink1URL: CR0137 FPGA Multiplexer Resource Usage.pdf#page=416; ComponentLink1Description: Core &Resource Usage; FunctionalClass: Multiplexer
pins: A[15..0] (out), B[15..0] (out), C[15..0] (out), D[15..0] (out), E[15..0] (out), EI (in), F[15..0] (out), G[15..0] (out), H[15..0] (out), I[15..0] (out), J[15..0] (out), K[15..0] (out), L[15..0] (out), M[15..0] (out), N[15..0] (out), O[15..0] (out), P[15..0] (out), S0 (in), S1 (in), S2 (in), S3 (in), Y[15..0] (in)

## M16_B1B16E_SB
designator U?
1x16-Bit Bus to 16x16-Bit Bus Multiplexer (Demultiplex) With Enable and Bus Version Select; SubClass: B1Bn; Enable: High; BusBusSelect: True; PortSize: 16; ArchiveName: GENERIC; VHDLIB_SIM: GENERIC_LIB; Published: 29-Jan-2004; Publisher: Altium Limited; LastRevisionNo: 1.00.00; HelpURL: CR0118 FPGA Generic Library Guide.pdf#page=360; ComponentLink1URL: CR0137 FPGA Multiplexer Resource Usage.pdf#page=417; ComponentLink1Description: Core &Resource Usage; FunctionalClass: Multiplexer; PortStyle: Bus Version
pins: A[15..0] (out), B[15..0] (out), C[15..0] (out), D[15..0] (out), E[15..0] (out), EI (in), F[15..0] (out), G[15..0] (out), H[15..0] (out), I[15..0] (out), J[15..0] (out), K[15..0] (out), L[15..0] (out), M[15..0] (out), N[15..0] (out), O[15..0] (out), P[15..0] (out), S[3..0] (in), Y[15..0] (in)

## M16_B2B1
designator U?
2x16-Bit Bus to 1x16-Bit Bus Multiplexer; SubClass: BnB1; PortSize: 16; ArchiveName: GENERIC; VHDLIB_SIM: GENERIC_LIB; Published: 29-Jan-2004; Publisher: Altium Limited; LastRevisionNo: 1.00.00; HelpURL: CR0118 FPGA Generic Library Guide.pdf#page=364; ComponentLink1URL: CR0137 FPGA Multiplexer Resource Usage.pdf#page=418; ComponentLink1Description: Core &Resource Usage; FunctionalClass: Multiplexer
pins: A[15..0] (in), B[15..0] (in), S0 (in), Y[15..0] (out)

## M16_B2B1E
designator U?
2x16-Bit Bus to 1x16-Bit Bus Multiplexer With Enable; SubClass: BnB1; Enable: High; PortSize: 16; ArchiveName: GENERIC; VHDLIB_SIM: GENERIC_LIB; Published: 29-Jan-2004; Publisher: Altium Limited; LastRevisionNo: 1.00.00; HelpURL: CR0118 FPGA Generic Library Guide.pdf#page=366; ComponentLink1URL: CR0137 FPGA Multiplexer Resource Usage.pdf#page=419; ComponentLink1Description: Core &Resource Usage; FunctionalClass: Multiplexer
pins: A[15..0] (in), B[15..0] (in), EI (in), S0 (in), Y[15..0] (out)

## M16_B4B1
designator U?
4x16-Bit Bus to 1x16-Bit Bus Multiplexer; SubClass: BnB1; PortSize: 16; ArchiveName: GENERIC; VHDLIB_SIM: GENERIC_LIB; Published: 29-Jan-2004; Publisher: Altium Limited; LastRevisionNo: 1.00.00; HelpURL: CR0118 FPGA Generic Library Guide.pdf#page=370; ComponentLink1URL: CR0137 FPGA Multiplexer Resource Usage.pdf#page=420; ComponentLink1Description: Core &Resource Usage; FunctionalClass: Multiplexer
pins: A[15..0] (in), B[15..0] (in), C[15..0] (in), D[15..0] (in), S0 (in), S1 (in), Y[15..0] (out)

## M16_B4B1_SB
designator U?
4x16-Bit Bus to 1x16-Bit Bus Multiplexer With Bus Version Select; SubClass: BnB1; BusBusSelect: True; PortSize: 16; ArchiveName: GENERIC; VHDLIB_SIM: GENERIC_LIB; Published: 31-May-2004; Publisher: Altium Limited; LastRevisionNo: 1.00.00; HelpURL: CR0118 FPGA Generic Library Guide.pdf#page=370; ComponentLink1URL: CR0137 FPGA Multiplexer Resource Usage.pdf#page=421; ComponentLink1Description: Core &Resource Usage; FunctionalClass: Multiplexer
pins: A[15..0] (in), B[15..0] (in), C[15..0] (in), D[15..0] (in), S[1..0] (in), Y[15..0] (out)

## M16_B4B1E
designator U?
4x16-Bit Bus to 1x16-Bit Bus Multiplexer With Enable; SubClass: BnB1; Enable: High; PortSize: 16; ArchiveName: GENERIC; VHDLIB_SIM: GENERIC_LIB; Published: 29-Jan-2004; Publisher: Altium Limited; LastRevisionNo: 1.00.00; HelpURL: CR0118 FPGA Generic Library Guide.pdf#page=374; ComponentLink1URL: CR0137 FPGA Multiplexer Resource Usage.pdf#page=422; ComponentLink1Description: Core &Resource Usage; FunctionalClass: Multiplexer
pins: A[15..0] (in), B[15..0] (in), C[15..0] (in), D[15..0] (in), EI (in), S0 (in), S1 (in), Y[15..0] (out)

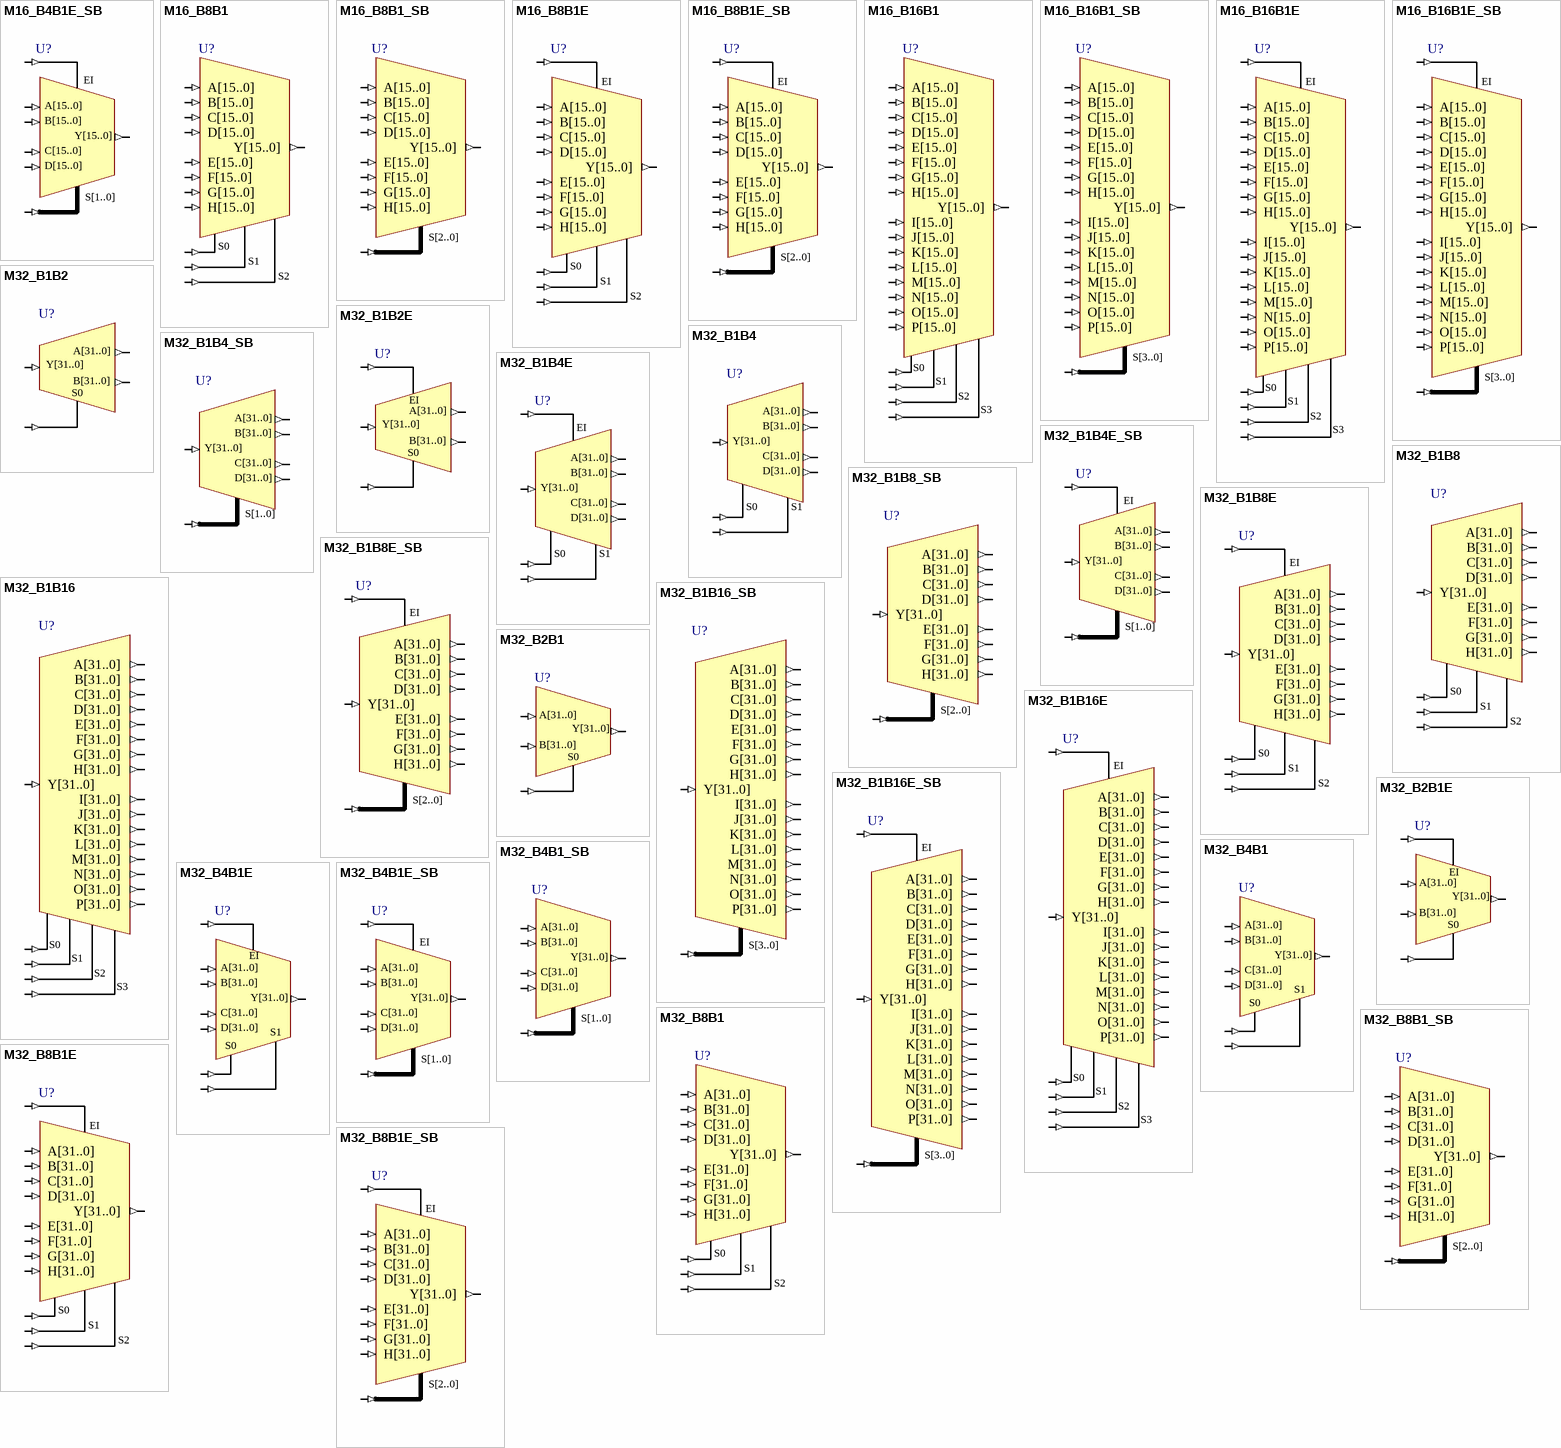
[diagram p32: symbols M16_B4B1E_SB to M32_B8B1E_SB]

## M16_B4B1E_SB
designator U?
4x16-Bit Bus to 1x16-Bit Bus Multiplexer With Enable With Bus Version Select; SubClass: BnB1; Enable: High; BusBusSelect: True; PortSize: 16; ArchiveName: GENERIC; VHDLIB_SIM: GENERIC_LIB; Published: 31-May-2004; Publisher: Altium Limited; LastRevisionNo: 1.00.00; HelpURL: CR0118 FPGA Generic Library Guide.pdf#page=374; ComponentLink1URL: CR0137 FPGA Multiplexer Resource Usage.pdf#page=423; ComponentLink1Description: Core &Resource Usage; FunctionalClass: Multiplexer
pins: A[15..0] (in), B[15..0] (in), C[15..0] (in), D[15..0] (in), EI (in), S[1..0] (in), Y[15..0] (out)

## M16_B8B1
designator U?
8x16-Bit Bus to 1x16-Bit Bus Multiplexer; SubClass: BnB1; PortSize: 16; ArchiveName: GENERIC; VHDLIB_SIM: GENERIC_LIB; Published: 29-Jan-2004; Publisher: Altium Limited; LastRevisionNo: 1.00.00; HelpURL: CR0118 FPGA Generic Library Guide.pdf#page=379; ComponentLink1URL: CR0137 FPGA Multiplexer Resource Usage.pdf#page=424; ComponentLink1Description: Core &Resource Usage; FunctionalClass: Multiplexer
pins: A[15..0] (in), B[15..0] (in), C[15..0] (in), D[15..0] (in), E[15..0] (in), F[15..0] (in), G[15..0] (in), H[15..0] (in), S0 (in), S1 (in), S2 (in), Y[15..0] (out)

## M16_B8B1_SB
designator U?
8x16-Bit Bus to 1x16-Bit Bus Multiplexer With Bus Version Select; SubClass: BnB1; BusBusSelect: True; PortSize: 16; ArchiveName: GENERIC; VHDLIB_SIM: GENERIC_LIB; Published: 31-May-2004; Publisher: Altium Limited; LastRevisionNo: 1.00.00; HelpURL: CR0118 FPGA Generic Library Guide.pdf#page=379; ComponentLink1URL: CR0137 FPGA Multiplexer Resource Usage.pdf#page=425; ComponentLink1Description: Core &Resource Usage; FunctionalClass: Multiplexer
pins: A[15..0] (in), B[15..0] (in), C[15..0] (in), D[15..0] (in), E[15..0] (in), F[15..0] (in), G[15..0] (in), H[15..0] (in), S[2..0] (in), Y[15..0] (out)

## M16_B8B1E
designator U?
8x16-Bit Bus to 1x16-Bit Bus Multiplexer With Enable; SubClass: BnB1; Enable: High; PortSize: 16; ArchiveName: GENERIC; VHDLIB_SIM: GENERIC_LIB; Published: 29-Jan-2004; Publisher: Altium Limited; LastRevisionNo: 1.00.00; HelpURL: CR0118 FPGA Generic Library Guide.pdf#page=383; ComponentLink1URL: CR0137 FPGA Multiplexer Resource Usage.pdf#page=426; ComponentLink1Description: Core &Resource Usage; FunctionalClass: Multiplexer
pins: A[15..0] (in), B[15..0] (in), C[15..0] (in), D[15..0] (in), E[15..0] (in), EI (in), F[15..0] (in), G[15..0] (in), H[15..0] (in), S0 (in), S1 (in), S2 (in), Y[15..0] (out)

## M16_B8B1E_SB
designator U?
8x16-Bit Bus to 1x16-Bit Bus Multiplexer With Enable With Bus Version Select; SubClass: BnB1; Enable: High; BusBusSelect: True; PortSize: 16; ArchiveName: GENERIC; VHDLIB_SIM: GENERIC_LIB; Published: 31-May-2004; Publisher: Altium Limited; LastRevisionNo: 1.00.00; HelpURL: CR0118 FPGA Generic Library Guide.pdf#page=383; ComponentLink1URL: CR0137 FPGA Multiplexer Resource Usage.pdf#page=427; ComponentLink1Description: Core &Resource Usage; FunctionalClass: Multiplexer
pins: A[15..0] (in), B[15..0] (in), C[15..0] (in), D[15..0] (in), E[15..0] (in), EI (in), F[15..0] (in), G[15..0] (in), H[15..0] (in), S[2..0] (in), Y[15..0] (out)

## M16_B16B1
designator U?
16x16-Bit Bus to 1x16-Bit Bus Multiplexer; SubClass: BnB1; PortSize: 16; ArchiveName: GENERIC; VHDLIB_SIM: GENERIC_LIB; Published: 29-Jan-2004; Publisher: Altium Limited; LastRevisionNo: 1.00.00; HelpURL: CR0118 FPGA Generic Library Guide.pdf#page=388; ComponentLink1URL: CR0137 FPGA Multiplexer Resource Usage.pdf#page=428; ComponentLink1Description: Core &Resource Usage; FunctionalClass: Multiplexer
pins: A[15..0] (in), B[15..0] (in), C[15..0] (in), D[15..0] (in), E[15..0] (in), F[15..0] (in), G[15..0] (in), H[15..0] (in), I[15..0] (in), J[15..0] (in), K[15..0] (in), L[15..0] (in), M[15..0] (in), N[15..0] (in), O[15..0] (in), P[15..0] (in), S0 (in), S1 (in), S2 (in), S3 (in), Y[15..0] (out)

## M16_B16B1_SB
designator U?
16x16-Bit Bus to 1x16-Bit Bus Multiplexer With Bus Version Select; SubClass: BnB1; BusBusSelect: True; PortSize: 16; ArchiveName: GENERIC; VHDLIB_SIM: GENERIC_LIB; Published: 29-Jan-2004; Publisher: Altium Limited; LastRevisionNo: 1.00.00; HelpURL: CR0118 FPGA Generic Library Guide.pdf#page=388; ComponentLink1URL: CR0137 FPGA Multiplexer Resource Usage.pdf#page=429; ComponentLink1Description: Core &Resource Usage; FunctionalClass: Multiplexer
pins: A[15..0] (in), B[15..0] (in), C[15..0] (in), D[15..0] (in), E[15..0] (in), F[15..0] (in), G[15..0] (in), H[15..0] (in), I[15..0] (in), J[15..0] (in), K[15..0] (in), L[15..0] (in), M[15..0] (in), N[15..0] (in), O[15..0] (in), P[15..0] (in), S[3..0] (in), Y[15..0] (out)

## M16_B16B1E
designator U?
16x16-Bit Bus to 1x16-Bit Bus Multiplexer With Enable; SubClass: BnB1; Enable: High; PortSize: 16; ArchiveName: GENERIC; VHDLIB_SIM: GENERIC_LIB; Published: 29-Jan-2004; Publisher: Altium Limited; LastRevisionNo: 1.00.00; HelpURL: CR0118 FPGA Generic Library Guide.pdf#page=393; ComponentLink1URL: CR0137 FPGA Multiplexer Resource Usage.pdf#page=430; ComponentLink1Description: Core &Resource Usage; FunctionalClass: Multiplexer
pins: A[15..0] (in), B[15..0] (in), C[15..0] (in), D[15..0] (in), E[15..0] (in), EI (in), F[15..0] (in), G[15..0] (in), H[15..0] (in), I[15..0] (in), J[15..0] (in), K[15..0] (in), L[15..0] (in), M[15..0] (in), N[15..0] (in), O[15..0] (in), P[15..0] (in), S0 (in), S1 (in), S2 (in), S3 (in), Y[15..0] (out)

## M16_B16B1E_SB
designator U?
16x16-Bit Bus to 1x16-Bit Bus Multiplexer With Enable and Bus Version Select; SubClass: BnB1; Enable: High; BusBusSelect: True; PortSize: 16; ArchiveName: GENERIC; VHDLIB_SIM: GENERIC_LIB; Published: 29-Jan-2004; Publisher: Altium Limited; LastRevisionNo: 1.00.00; HelpURL: CR0118 FPGA Generic Library Guide.pdf#page=393; ComponentLink1URL: CR0137 FPGA Multiplexer Resource Usage.pdf#page=431; ComponentLink1Description: Core &Resource Usage; FunctionalClass: Multiplexer
pins: A[15..0] (in), B[15..0] (in), C[15..0] (in), D[15..0] (in), E[15..0] (in), EI (in), F[15..0] (in), G[15..0] (in), H[15..0] (in), I[15..0] (in), J[15..0] (in), K[15..0] (in), L[15..0] (in), M[15..0] (in), N[15..0] (in), O[15..0] (in), P[15..0] (in), S[3..0] (in), Y[15..0] (out)

## M32_B1B2
designator U?
1x32-Bit Bus to 2x32-Bit Bus Multiplexer (Demultiplex); SubClass: B1Bn; PortSize: 32; PortStyle: Bus Version; ArchiveName: GENERIC; VHDLIB_SIM: GENERIC_LIB; Published: 29-Jan-2004; Publisher: Altium Limited; LastRevisionNo: 1.00.00; HelpURL: CR0118 FPGA Generic Library Guide.pdf#page=328; ComponentLink1URL: CR0137 FPGA Multiplexer Resource Usage.pdf#page=432; ComponentLink1Description: Core &Resource Usage; FunctionalClass: Multiplexer
pins: A[31..0] (out), B[31..0] (out), S0 (in), Y[31..0] (in)

## M32_B1B2E
designator U?
1x32-Bit Bus to 2x32-Bit Bus Multiplexer (Demultiplex) With Enable; SubClass: B1Bn; Enable: High; PortSize: 32; PortStyle: Bus Version; ArchiveName: GENERIC; VHDLIB_SIM: GENERIC_LIB; Published: 29-Jan-2004; Publisher: Altium Limited; LastRevisionNo: 1.00.00; HelpURL: CR0118 FPGA Generic Library Guide.pdf#page=331; ComponentLink1URL: CR0137 FPGA Multiplexer Resource Usage.pdf#page=433; ComponentLink1Description: Core &Resource Usage; FunctionalClass: Multiplexer
pins: A[31..0] (out), B[31..0] (out), EI (in), S0 (in), Y[31..0] (in)

## M32_B1B4
designator U?
1x32-Bit Bus to 4x32-Bit Bus Multiplexer (Demultiplex); SubClass: B1Bn; PortSize: 32; PortStyle: Bus Version; ArchiveName: GENERIC; VHDLIB_SIM: GENERIC_LIB; Published: 29-Jan-2004; Publisher: Altium Limited; LastRevisionNo: 1.00.00; HelpURL: CR0118 FPGA Generic Library Guide.pdf#page=335; ComponentLink1URL: CR0137 FPGA Multiplexer Resource Usage.pdf#page=434; ComponentLink1Description: Core &Resource Usage; FunctionalClass: Multiplexer
pins: A[31..0] (out), B[31..0] (out), C[31..0] (out), D[31..0] (out), S0 (in), S1 (in), Y[31..0] (in)

## M32_B1B4_SB
designator U?
1x32-Bit Bus to 4x32-Bit Bus Multiplexer (Demultiplex) With Bus Version Select; SubClass: B1Bn; BusBusSelect: True; PortSize: 32; ArchiveName: GENERIC; VHDLIB_SIM: GENERIC_LIB; Published: 31-May-2004; Publisher: Altium Limited; LastRevisionNo: 1.00.00; HelpURL: CR0118 FPGA Generic Library Guide.pdf#page=335; ComponentLink1URL: CR0137 FPGA Multiplexer Resource Usage.pdf#page=435; ComponentLink1Description: Core &Resource Usage; FunctionalClass: Multiplexer; PortStyle: Bus Version
pins: A[31..0] (out), B[31..0] (out), C[31..0] (out), D[31..0] (out), S[1..0] (in), Y[31..0] (in)

## M32_B1B4E
designator U?
1x32-Bit Bus to 4x32-Bit Bus Multiplexer (Demultiplex)  With Enable; SubClass: B1Bn; Enable: High; PortSize: 32; PortStyle: Bus Version; ArchiveName: GENERIC; VHDLIB_SIM: GENERIC_LIB; Published: 29-Jan-2004; Publisher: Altium Limited; LastRevisionNo: 1.00.00; HelpURL: CR0118 FPGA Generic Library Guide.pdf#page=339; ComponentLink1URL: CR0137 FPGA Multiplexer Resource Usage.pdf#page=436; ComponentLink1Description: Core &Resource Usage; FunctionalClass: Multiplexer
pins: A[31..0] (out), B[31..0] (out), C[31..0] (out), D[31..0] (out), EI (in), S0 (in), S1 (in), Y[31..0] (in)

## M32_B1B4E_SB
designator U?
1x32-Bit Bus to 4x32-Bit Bus Multiplexer (Demultiplex)  With Enable With Bus Version Select; SubClass: B1Bn; Enable: High; BusBusSelect: True; PortSize: 32; ArchiveName: GENERIC; VHDLIB_SIM: GENERIC_LIB; Published: 31-May-2004; Publisher: Altium Limited; LastRevisionNo: 1.00.00; HelpURL: CR0118 FPGA Generic Library Guide.pdf#page=339; ComponentLink1URL: CR0137 FPGA Multiplexer Resource Usage.pdf#page=437; ComponentLink1Description: Core &Resource Usage; FunctionalClass: Multiplexer; PortStyle: Bus Version
pins: A[31..0] (out), B[31..0] (out), C[31..0] (out), D[31..0] (out), EI (in), S[1..0] (in), Y[31..0] (in)

## M32_B1B8
designator U?
1x32-Bit Bus to 8x32-Bit Bus Multiplexer (Demultiplex); SubClass: B1Bn; PortSize: 32; PortStyle: Bus Version; ArchiveName: GENERIC; VHDLIB_SIM: GENERIC_LIB; Published: 29-Jan-2004; Publisher: Altium Limited; LastRevisionNo: 1.00.00; HelpURL: CR0118 FPGA Generic Library Guide.pdf#page=345; ComponentLink1URL: CR0137 FPGA Multiplexer Resource Usage.pdf#page=438; ComponentLink1Description: Core &Resource Usage; FunctionalClass: Multiplexer
pins: A[31..0] (out), B[31..0] (out), C[31..0] (out), D[31..0] (out), E[31..0] (out), F[31..0] (out), G[31..0] (out), H[31..0] (out), S0 (in), S1 (in), S2 (in), Y[31..0] (in)

## M32_B1B8_SB
designator U?
1x32-Bit Bus to 8x32-Bit Bus Multiplexer (Demultiplex) With Bus Version Select; SubClass: B1Bn; BusBusSelect: True; PortSize: 32; ArchiveName: GENERIC; VHDLIB_SIM: GENERIC_LIB; Published: 31-May-2004; Publisher: Altium Limited; LastRevisionNo: 1.00.00; HelpURL: CR0118 FPGA Generic Library Guide.pdf#page=345; ComponentLink1URL: CR0137 FPGA Multiplexer Resource Usage.pdf#page=439; ComponentLink1Description: Core &Resource Usage; FunctionalClass: Multiplexer; PortStyle: Bus Version
pins: A[31..0] (out), B[31..0] (out), C[31..0] (out), D[31..0] (out), E[31..0] (out), F[31..0] (out), G[31..0] (out), H[31..0] (out), S[2..0] (in), Y[31..0] (in)

## M32_B1B8E
designator U?
1x32-Bit Bus to 8x32-Bit Bus Multiplexer (Demultiplex)  With Enable; SubClass: B1Bn; Enable: High; PortSize: 32; PortStyle: Bus Version; ArchiveName: GENERIC; VHDLIB_SIM: GENERIC_LIB; Published: 29-Jan-2004; Publisher: Altium Limited; LastRevisionNo: 1.00.00; HelpURL: CR0118 FPGA Generic Library Guide.pdf#page=350; ComponentLink1URL: CR0137 FPGA Multiplexer Resource Usage.pdf#page=440; ComponentLink1Description: Core &Resource Usage; FunctionalClass: Multiplexer
pins: A[31..0] (out), B[31..0] (out), C[31..0] (out), D[31..0] (out), E[31..0] (out), EI (in), F[31..0] (out), G[31..0] (out), H[31..0] (out), S0 (in), S1 (in), S2 (in), Y[31..0] (in)